# EAGLE library part ADC:AD9432(12-BIT,PAR,85/105MSPS) (library QuantumOptics)
AD9432, fast 12-bit ADC, AnaDev, 85/105MSPS, parallel CMOS/TTL, easy to use. http://www.analog.com/en/prod/0,,AD9432,00.html
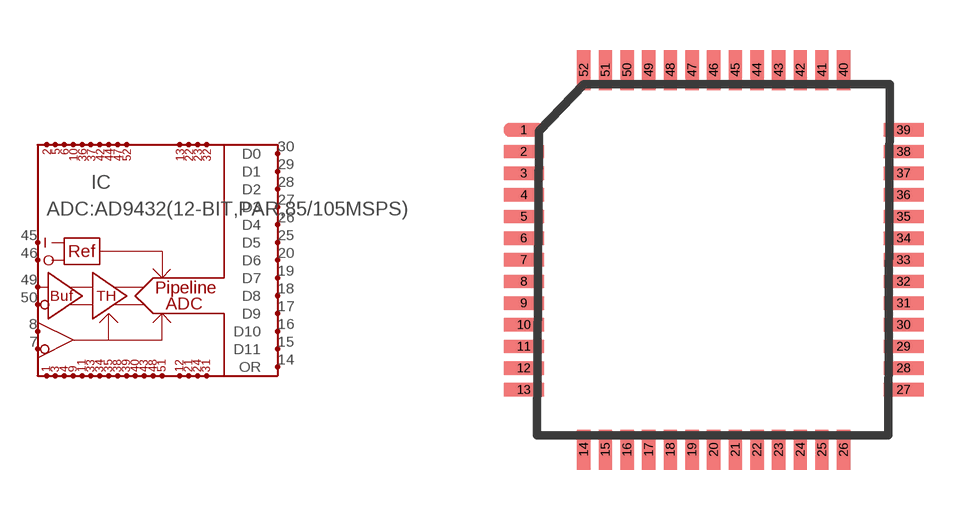
[diagram p97: symbol with the pads of QFP52; footprint QFP52]

Designator prefix IC

## ADC:AD9432(12-BIT,PAR,85/105MSPS)  [QFP52]
1  AGND1
2  VCCA1
3  AGND2
4  AGND3
5  VCCA2
6  VCCA3
7  CLK-  in
8  CLK+  in
9  AGND4
10  VCCA4
11  AGND5
12  DGND1
13  VCCD1
14  OR  out
15  D11  out
16  D10  out
17  D9  out
18  D8  out
19  D7  out
20  D6  out
21  DGND2
22  VCCD2
23  VCCD3
24  DGND3
25  D5  out
26  D4  out
27  D3  out
28  D2  out
29  D1  out
30  D0  out
31  DGND4
32  VCCD4
33  AGND6
34  AGND7
35  AGND8
36  VCCA5
37  VCCA6
38  AGND9
39  AGND10
40  AGND11
42  VCCA7
43  AGND12
44  VCCA8
45  REF-IN  in
46  REF-OUT  out
47  VCCA9
48  AGND13
49  AIN+  in
50  AIN-  in
51  AGND14
52  VCCA10

## Footprint QFP52 (pad centres in mm)
QFP-52, either LQFP-52 or LQFP_ED-52. 0.05mm pin pitch. Based on Analog Devices AD9432, http://www.analog.com/UploadedFiles/Data_Sheets/AD9432.pdf
smd 1.2 x 0.4: 1 0,0; 2 0,-0.65; 3 0,-1.3; 4 0,-1.95; 5 0,-2.6; 6 0,-3.25; 7 0,-3.9; 8 0,-4.55; 9 0,-5.2; 10 0,-5.85; 11 0,-6.5; 12 0,-7.15; 13 0,-7.8; 27 11.4,-7.8; 28 11.4,-7.15; 29 11.4,-6.5; 30 11.4,-5.85; 31 11.4,-5.2; 32 11.4,-4.55; 33 11.4,-3.9; 34 11.4,-3.25; 35 11.4,-2.6; 36 11.4,-1.95; 37 11.4,-1.3; 38 11.4,-0.65; 39 11.4,0
smd 0.4 x 1.2: 14 1.8,-9.6; 15 2.45,-9.6; 16 3.1,-9.6; 17 3.75,-9.6; 18 4.4,-9.6; 19 5.05,-9.6; 20 5.7,-9.6; 21 6.35,-9.6; 22 7,-9.6; 23 7.65,-9.6; 24 8.3,-9.6; 25 8.95,-9.6; 26 9.6,-9.6; 40 9.6,1.8; 41 8.95,1.8; 42 8.3,1.8; 43 7.65,1.8; 44 7,1.8; 45 6.35,1.8; 46 5.7,1.8; 47 5.05,1.8; 48 4.4,1.8; 49 3.75,1.8; 50 3.1,1.8; 51 2.45,1.8; 52 1.8,1.8